# Altium schematic symbol library RES,TRIM.Schlib: 1 symbol
Pins are listed as number, name and electrical type; pins without a type are passive.

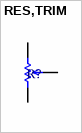
[diagram p0: symbol RES,TRIM]

## RES,TRIM
designator R?
pins: 1, 2, 3